# Altium footprint library eSurf_handle.PcbLib: 57 footprints (part 1 of 4)
Each footprint in its own frame and in the unit in brackets; x right, y up, seen from the top. Pads: shape width x height; smd on the part's side, far side on the other; paste and mask are expansions set on the pad; w line width, h text height; cw(c..) or ccw(c..) is an arc to the next point about the centre after c.
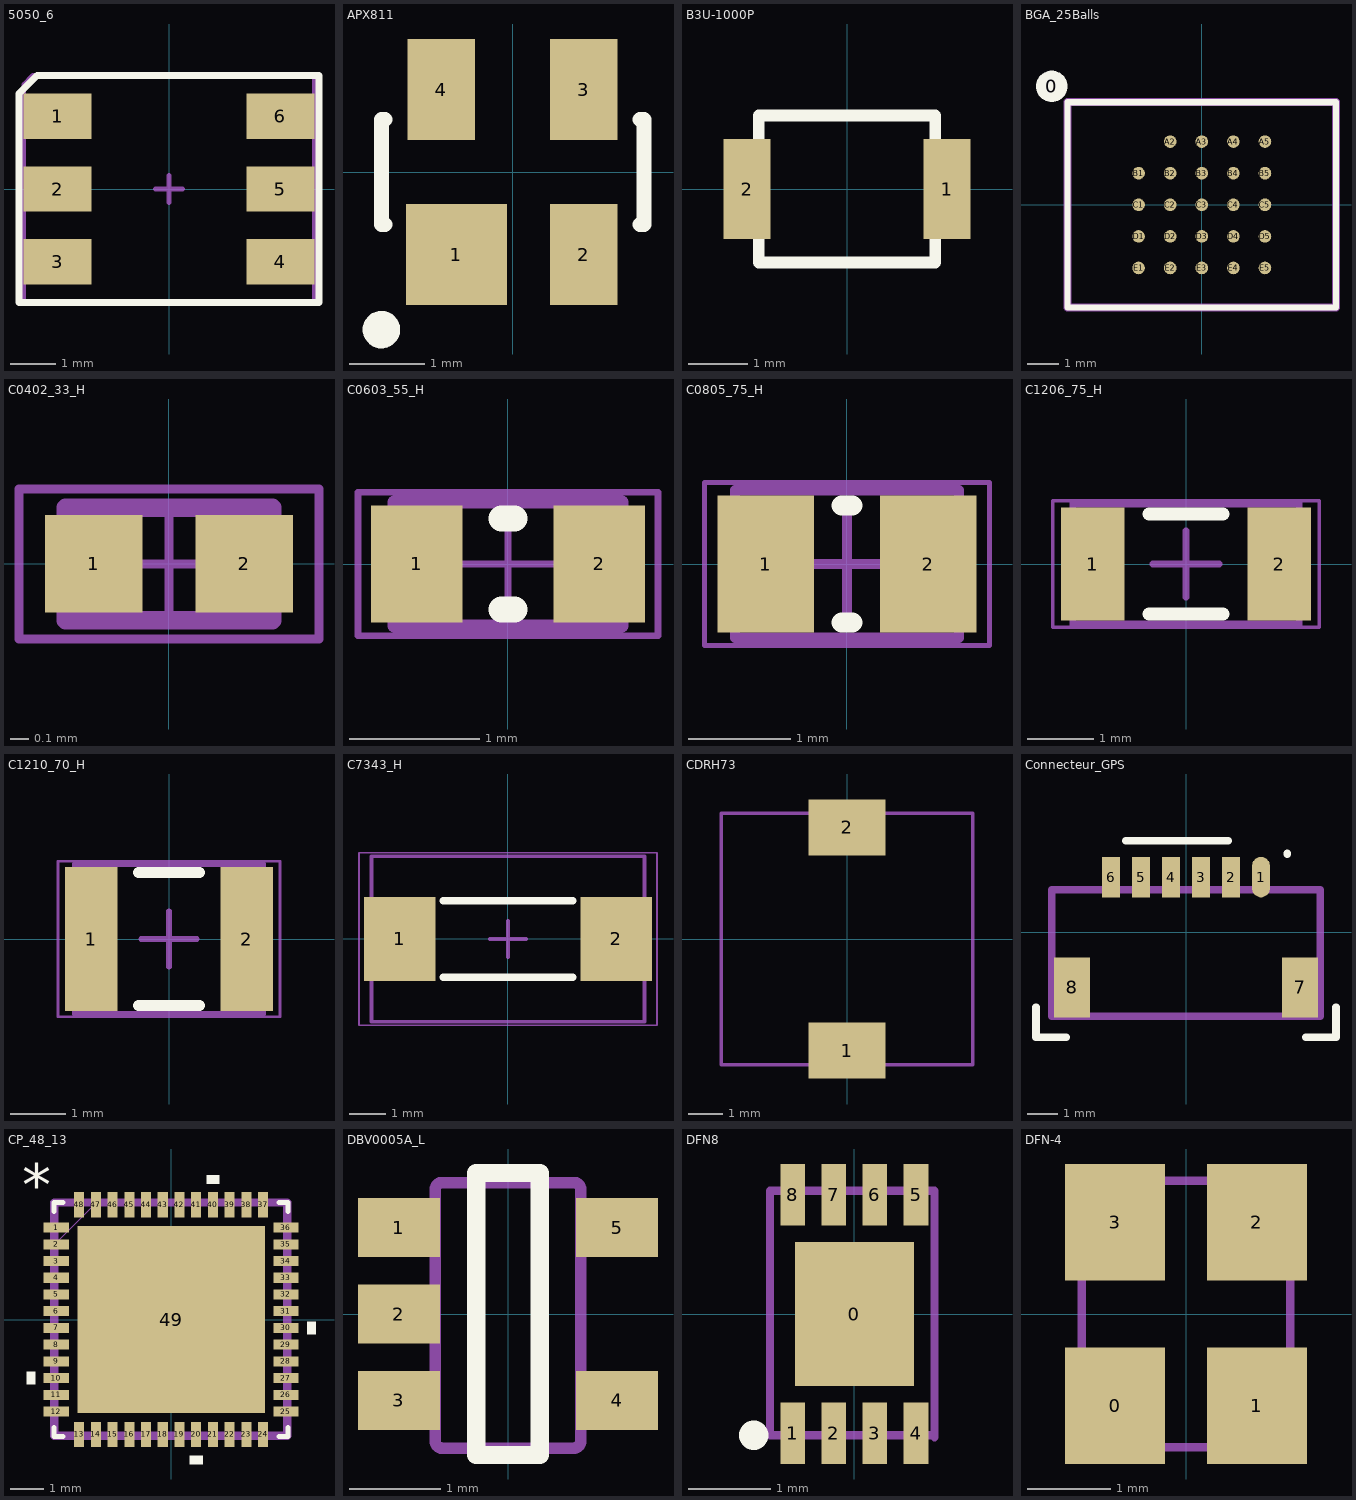
[diagram p0: the footprints below, top view; thin cyan lines are the x and y axes]

## 5050_6 [mm] "LED RGB, 6pin, WS2812 integrated PWM chip"
height 1
pads (6):
  rect 1.5x1 smd: 1(-2.45,1.6) 2(-2.45,0) 3(-2.45,-1.6) 4(2.45,-1.6) 5(2.45,0) 6(2.45,1.6)
Top Overlay:
  lines w0.15: -3.3,-2.5 3.3,-2.5 3.3,2.5 -2.9,2.5 -3.3,2.1 -3.3,-2.5
Mechanical 2:
  lines w0.1: -0.3,0 0.3,0 ; 0,-0.3 0,0.3 ; -3.2,-2.5 3.2,-2.5 3.2,2.5 -3,2.5 -3.2,2.3 -3.2,-2.5
Mechanical 15:
  lines w0.1: -0.3,0 0.3,0 ; 0,-0.3 0,0.3 ; -3.2,-2.5 -3.2,2.3 -3,2.5 3.2,2.5 3.2,-2.5 -3.2,-2.5
3D body: height 1.5, standoff 0, extent -2.5,-2.5 2.5,2.5
3D body: height 1.52, standoff 1.5, extent -0.7,-0.2 -0.3,0.2
3D body: height 1.52, standoff 1.5, extent -0.2,-0.7 0.2,-0.3
3D body: height 1.52, standoff 1.5, extent -0.2,0.3 0.2,0.7
3D body: height 1.51, standoff 1.5, extent -1.984,-1.996 2,1.996

## APX811 [mm] "SOT143, 4 Leads, Body 2.92x1.3mm, Pitch 1.92mm"
pads (4):
  rect 1.35x1.35 smd: 1(-0.75,-1.1)
  rect 0.9x1.35 smd: 2(0.95,-1.1) 3(0.95,1.1) 4(-0.95,1.1)
Top Overlay:
  circle w0.25: c-1.75,-2.1 r0.125
  lines w0.2: -1.7,-0.7 -1.75,-0.7 -1.75,0.7 -1.7,0.7 ; 1.7,-0.7 1.75,-0.7 1.75,0.7 1.7,0.7
3D body: height 0.2, standoff 0, extent 0.779,-1.464 1.125,-0.414
3D body: height 0.2, standoff 0, extent -1.166,-1.503 -0.82,-0.452
3D body: height 0.2, standoff 0, extent 0.784,0.408 1.13,1.459
3D body: height 0.2, standoff 0, extent -1.149,0.408 -0.803,1.459
3D body: height 1.22, standoff 0.01, extent -1.516,-0.878 1.514,0.931

## B3U-1000P [mm] "B3U-OMRON"
pads (2):
  rect 0.8x1.7 smd: 1(1.7,0) 2(-1.7,0)
Top Overlay:
  lines w0.2: -1.5,-1.25 -1.5,1.25 1.5,1.25 1.5,-1.25 -1.5,-1.25
3D body: height 1.2, standoff 0, extent -1.5,-1.2 1.5,1.2
3D body: height 1.6, standoff 0.1, extent -1,-1 1,1

## BGA_25Balls [mm] "S25FL256SAGBHI200"
height 1
pads (25):
  round 1 on Top Overlay: 0(-4.75,3.75)
  round 0.4 smd: A2(-1,2) A3(0,2) A4(1,2) A5(2,2) B1(-2,1) B2(-1,1) B3(0,1) B4(1,1) B5(2,1) C1(-2,0) C2(-1,0) C3(0,0) C4(1,0) C5(2,0) D1(-2,-1) D2(-1,-1) D3(0,-1) D4(1,-1) D5(2,-1) E1(-2,-2) E2(-1,-2) E3(0,-2) E4(1,-2) E5(2,-2)
Top Overlay:
  lines w0.2: -4.25,-3.25 4.25,-3.25 4.25,3.25 -4.25,3.25 -4.25,-3.25
Mechanical 15:
  lines w0.254: -4.25,-3.25 -4.25,3.25 4.25,3.25 4.25,-3.25 -4.25,-3.25
3D body: height 1, standoff 0.2, extent -4,-3 4,3

## C0402_33_H [mm] "Chip Capacitor, Body 1.0x0.5mm, Height 0.33mm, IPC High Density"
height 0.33
pads (2):
  rect 0.52x0.52 smd: 1(-0.4,0) 2(0.4,0)
Mechanical 13:
  lines w0.1: -0.55,-0.3 0.55,-0.3 0.55,0.3 -0.55,0.3 -0.55,-0.3
Mechanical 15:
  lines w0.05: -0.3,0 0.3,0 ; 0,-0.3 0,0.3 ; -0.8,-0.4 0.8,-0.4 0.8,0.4 -0.8,0.4 -0.8,-0.4
3D body: height 0.33, standoff 0, extent 0.3,-0.3 0.55,0.3
3D body: height 0.33, standoff 0, extent -0.55,-0.3 -0.3,0.3
3D body: height 0.33, standoff 0, extent -0.3,-0.3 0.3,0.3

## C0603_55_H [mm] "Chip Capacitor, Body 1.6x0.8mm, Height 0.55mm, IPC High Density"
height 0.55
pads (2):
  rect 0.7x0.9 smd: 1(-0.7,0) 2(0.7,0)
Top Overlay:
  lines w0.2: -0.05,-0.35 0.05,-0.35 ; -0.05,0.35 0.05,0.35
Mechanical 13:
  lines w0.1: -0.875,-0.475 0.875,-0.475 0.875,0.475 -0.875,0.475 -0.875,-0.475
Mechanical 15:
  lines w0.05: -0.475,0 0.475,0 ; 0,-0.475 0,0.475 ; -1.15,-0.55 1.15,-0.55 1.15,0.55 -1.15,0.55 -1.15,-0.55
3D body: height 0.55, standoff 0, extent 0.525,-0.475 0.875,0.475
3D body: height 0.55, standoff 0, extent -0.875,-0.475 -0.525,0.475
3D body: height 0.55, standoff 0, extent -0.525,-0.475 0.525,0.475

## C0805_75_H [mm] "Chip Capacitor, Body 2.0x1.2mm, Height 0.75mm, IPC High Density"
height 0.75
pads (2):
  rect 0.95x1.35 smd: 1(-0.8,0) 2(0.8,0)
Top Overlay:
  lines w0.2: -0.05,-0.575 0.05,-0.575 ; -0.05,0.575 0.05,0.575
Mechanical 13:
  lines w0.1: -1.1,-0.725 1.1,-0.725 1.1,0.725 -1.1,0.725 -1.1,-0.725
Mechanical 15:
  lines w0.05: -1.4,-0.8 1.4,-0.8 1.4,0.8 -1.4,0.8 -1.4,-0.8
  lines w0.1: -0.5,0 0.5,0 ; 0,-0.5 0,0.5
3D body: height 0.75, standoff 0, extent 0.6,-0.725 1.1,0.725
3D body: height 0.75, standoff 0, extent -1.1,-0.725 -0.6,0.725
3D body: height 0.75, standoff 0, extent -0.6,-0.725 0.6,0.725

## C1206_75_H [mm] "Chip Capacitor, Body 3.2x1.6mm, Height 0.75mm, IPC High Density"
height 0.75
pads (2):
  rect 0.95x1.7 smd: 1(-1.4,0) 2(1.4,0)
Top Overlay:
  lines w0.2: -0.55,-0.75 0.55,-0.75 ; -0.55,0.75 0.55,0.75
Mechanical 13:
  lines w0.1: -1.7,-0.9 1.7,-0.9 1.7,0.9 -1.7,0.9 -1.7,-0.9
Mechanical 15:
  lines w0.05: -2,-0.95 2,-0.95 2,0.95 -2,0.95 -2,-0.95
  lines w0.1: -0.5,0 0.5,0 ; 0,-0.5 0,0.5
3D body: height 0.75, standoff 0, extent 1.2,-0.9 1.7,0.9
3D body: height 0.75, standoff 0, extent -1.7,-0.9 -1.2,0.9
3D body: height 0.75, standoff 0, extent -1.2,-0.9 1.2,0.9

## C1210_70_H [mm] "Chip Capacitor, Body 3.2x2.5mm, Height 0.7mm, IPC High Density"
height 0.7
pads (2):
  rect 0.95x2.6 smd: 1(-1.4,0) 2(1.4,0)
Top Overlay:
  lines w0.2: -0.55,-1.2 0.55,-1.2 ; -0.55,1.2 0.55,1.2
Mechanical 13:
  lines w0.1: -1.7,-1.35 -1.7,1.35 1.7,1.35 1.7,-1.35 -1.7,-1.35
Mechanical 15:
  lines w0.05: -2,-1.4 -2,1.4 2,1.4 2,-1.4 -2,-1.4
  lines w0.1: -0.5,0 0.5,0 ; 0,-0.5 0,0.5
3D body: height 0.7, standoff 0, extent -1.2,-1.35 1.2,1.35
3D body: height 0.7, standoff 0, extent -1.7,-1.35 -1.2,1.35
3D body: height 0.7, standoff 0, extent 1.2,-1.35 1.7,1.35

## C7343_H [mm] "Chip Capacitor, 2-Leads, Body 7.30x4.30mm, IPC High Density"
height 2.5
pads (2):
  rect 1.99x2.33 smd: 1(-3.01,0) 2(3.01,0)
Top Overlay:
  lines w0.2: -1.8,-1.065 1.8,-1.065 ; -1.8,1.065 1.8,1.065
Mechanical 13:
  lines w0.1: -3.8,-2.3 -3.8,2.3 3.8,2.3 3.8,-2.3 -3.8,-2.3
Mechanical 15:
  lines w0.05: -4.15,-2.4 -4.15,2.4 4.15,2.4 4.15,-2.4 -4.15,-2.4
  lines w0.1: -0.5,0 0.5,0 ; 0,-0.5 0,0.5
3D body: height 2.5, standoff 0, extent -2.5,-2.3 2.5,2.3
3D body: height 2.5, standoff 0, extent -3.8,-2.3 -2.5,2.3
3D body: height 2.5, standoff 0, extent 2.5,-2.3 3.8,2.3

## CDRH73 [mm]
height 3.2
pads (2):
  rect 2.2x1.6 smd mask+0.05: 1(0,-3.2) 2(0,3.2)
Mechanical 15:
  lines w0.1: -3.6,-3.6 -3.6,3.6 3.6,3.6 3.6,-3.6 -3.6,-3.6
3D body: height 0.8, standoff 0, extent -3.6,-3.6 3.6,3.6

## Connecteur_GPS [mm] "PRT-10210"
pads (8):
  oval 0.6x1.35 smd: 1(2.5,1.837)
  rect 0.6x1.35 smd: 2(1.5,1.837) 3(0.5,1.837) 4(-0.5,1.837) 5(-1.5,1.837) 6(-2.5,1.837)
  rect 1.2x2 smd: 7(3.8,-1.837) 8(-3.8,-1.837)
Top Overlay:
  lines w0.254: -5,-2.5 -5,-3.5 -4,-3.5 ; -2,3.05 1.4,3.05 ; 3.375,2.6 3.375,2.625 ; 4,-3.5 5,-3.5 5,-2.5
Mechanical 15:
  lines w0.254: -4.475,-2.8 -4.475,1.412 4.475,1.412 4.475,-2.8 -4.475,-2.8
3D body: height 2.9, standoff 0, extent -4.475,-2.8 4.475,1.412

## CP_48_13 [mm]
height 0.8
pads (49):
  rect 0.755x0.3 smd: 1(-3.433,2.75) 2(-3.433,2.25) 3(-3.433,1.75) 4(-3.433,1.25) 5(-3.433,0.75) 6(-3.433,0.25) 7(-3.433,-0.25) 8(-3.433,-0.75) 9(-3.433,-1.25) 10(-3.433,-1.75) 11(-3.433,-2.25) 12(-3.433,-2.75) 25(3.433,-2.75) 26(3.433,-2.25) 27(3.433,-1.75) 28(3.433,-1.25) 29(3.433,-0.75) 30(3.433,-0.25) 31(3.433,0.25) 32(3.433,0.75) 33(3.433,1.25) 34(3.433,1.75) 35(3.433,2.25) 36(3.433,2.75)
  rect 0.3x0.755 smd: 13(-2.75,-3.433) 14(-2.25,-3.433) 15(-1.75,-3.433) 16(-1.25,-3.433) 17(-0.75,-3.433) 18(-0.25,-3.433) 19(0.25,-3.433) 20(0.75,-3.433) 21(1.25,-3.433) 22(1.75,-3.433) 23(2.25,-3.433) 24(2.75,-3.433) 37(2.75,3.433) 38(2.25,3.433) 39(1.75,3.433) 40(1.25,3.433) 41(0.75,3.433) 42(0.25,3.433) 43(-0.25,3.433) 44(-0.75,3.433) 45(-1.25,3.433) 46(-1.75,3.433) 47(-2.25,3.433) 48(-2.75,3.433)
  rect 5.6x5.6 smd mask-2.781: 49(0,0)
Top Overlay:
  region: 1.441,4.064 1.06,4.064 1.06,4.318 1.441,4.318
  region: 4.064,-0.059 4.318,-0.059 4.318,-0.44 4.064,-0.44
  region: 0.941,-4.064 0.56,-4.064 0.56,-4.318 0.941,-4.318
  region: -4.064,-1.559 -4.318,-1.559 -4.318,-1.94 -4.064,-1.94
  lines w0.152: -3.5,-3.233 -3.5,-3.5 -3.233,-3.5 ; -3.5,3.233 -3.5,3.5 -3.233,3.5 ; 3.233,-3.5 3.5,-3.5 3.5,-3.233 ; 3.233,3.5 3.5,3.5 3.5,3.233
  text "*" at -4.445,3.381 h1.27
Mechanical 1:
  drawing of 197 lines, arcs and shapes, not listed
  text "*" at -4.445,3.381 h1.27
Mechanical 15:
  lines w0.254: -3.5,-3.475 -3.5,3.5 3.475,3.5 3.475,-3.475 -3.5,-3.475
3D body: height 0.8, standoff 0, extent -3.912,-3.912 3.912,3.912

## DBV0005A_L [mm]
pads (5):
  rect 0.9x0.65 smd paste-0.102 mask+0.051: 1(-1.2,0.95) 2(-1.2,0) 3(-1.2,-0.95) 4(1.2,-0.95) 5(1.2,0.95)
Top Overlay:
  lines w0.2: -0.35,-1.55 -0.35,1.55 0.35,1.55 0.35,-1.55 -0.35,-1.55
Mechanical 1:
  lines w0.127: -0.801,1.371 cw(c-0.725,1.37) -0.725,1.446 ; -0.801,1.37 -0.801,1.371 ; -0.801,1.37 -0.801,-1.399 -0.801,-1.4 ccw(c-0.725,-1.399) -0.725,-1.475 ; -0.725,-1.475 0.723,-1.475 0.724,-1.475 ccw(c0.723,-1.399) 0.799,-1.4 0.799,-1.399 0.799,1.37 ; -0.725,-1.475 -0.725,-1.475 ; -0.725,1.446 -0.725,1.446 ; -0.725,1.446 0.723,1.446 0.724,1.446 cw(c0.723,1.37) 0.799,1.371 ; 0.799,1.37 0.799,1.371 ; -1.423,-1.167 -1.423,-0.767 -1.199,-0.767 -1.105,-0.767 -1.088,-0.767 -0.835,-0.767 -0.801,-0.767 -0.801,-1.167 -0.835,-1.167 -1.088,-1.167 -1.105,-1.167 -1.199,-1.167 -1.423,-1.167 ; -1.423,-0.215 -1.423,0.186 -1.199,0.186 -1.105,0.186 -1.088,0.186 -0.835,0.186 -0.801,0.186 -0.801,-0.215 -0.835,-0.215 -1.088,-0.215 -1.105,-0.215 -1.199,-0.215 -1.423,-0.215 ; -1.423,0.738 -1.423,1.138 -1.199,1.138 -1.105,1.138 -1.088,1.138 -0.835,1.138 -0.801,1.138 -0.801,0.738 -0.835,0.738 -1.088,0.738 -1.105,0.738 -1.199,0.738 -1.423,0.738 ; 0.799,-1.167 0.834,-1.167 1.087,-1.167 1.103,-1.167 1.198,-1.167 1.422,-1.167 1.422,-0.767 1.198,-0.767 1.103,-0.767 1.087,-0.767 0.834,-0.767 0.799,-0.767 0.799,-1.167 ; 0.799,0.738 0.834,0.738 1.087,0.738 1.103,0.738 1.198,0.738 1.422,0.738 1.422,1.138 1.198,1.138 1.103,1.138 1.087,1.138 0.834,1.138 0.799,1.138 0.799,0.738

## DFN8 [mm] "DFN, 8-Leads, Body 3.00x2.00mm, Pitch 0.50mm, Thermal Pad 1.63x1.43mm, IPC Medium Density"
height 0.9
pads (9):
  rect 1.45x1.75 smd: 0(0,0)
  rect 0.3x0.75 smd: 1(-0.75,-1.45) 2(-0.25,-1.45) 3(0.25,-1.45) 4(0.75,-1.45) 5(0.75,1.45) 6(0.25,1.45) 7(-0.25,1.45) 8(-0.75,1.45)
Top Overlay:
  circle w0.2: c-1.225,-1.475 r0.079
Mechanical 15:
  lines w0.1: 0.975,-1.5 0.975,1.5 -1.025,1.5 -1.025,-1.475 0.975,-1.475
3D body: height 0.8, standoff 0, extent -1.025,-1.5 0.975,1.5

## DFN-4 [mm]
pads (4):
  rect 1.2x1.4 smd: 0(-0.85,-1.1) 1(0.85,-1.1) 2(0.85,1.1) 3(-0.85,1.1)
Mechanical 15:
  lines w0.1: -1.25,-1.6 1.25,-1.6 1.25,1.6 -1.25,1.6 -1.25,-1.6
3D body: height 0.85, standoff 0, extent -1.25,-1.6 1.25,1.6